# Altium schematic symbol library farnell.SCHLIB: 1 symbol
Pins are listed as number, name and electrical type; pins without a type are passive.

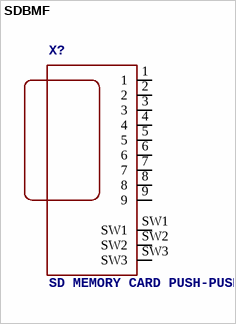
[diagram p0: symbol SDBMF]

## SDBMF
designator X?, comment SD MEMORY CARD PUSH-PUSH WITH CONNECTOR TYPE B (BIG SWUÌTCH #3)   KINGFONT PRECISION INDUSTIAL CO., LTD Source: http://www.farnell.com/datasheets/74273.pdf Best.-Nr.: 9186174 Hersteller: MULTICOMP Herstellerbez.:  SDBMF-00915B0T2
footprint SDBMF-009XXBXX2
pins: 1, 2, 3, 4, 5, 6, 7, 8, 9, SW1, SW2, SW3